# Altium footprint library SMB.PcbLib: 1 footprints
Each footprint in its own frame and in the unit in brackets; x right, y up, seen from the top. Pads: shape width x height; smd on the part's side, far side on the other; paste and mask are expansions set on the pad; w line width, h text height; cw(c..) or ccw(c..) is an arc to the next point about the centre after c.
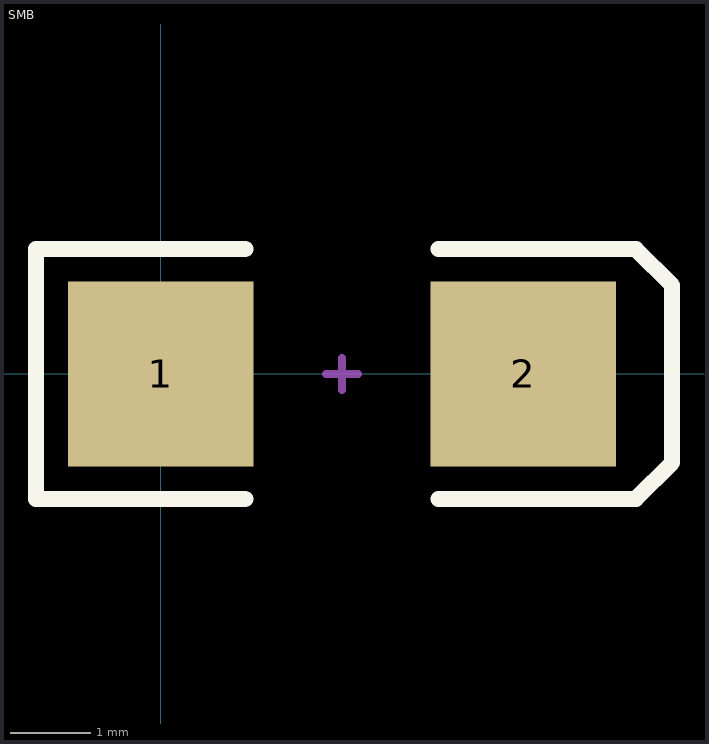
[diagram p0: the footprint, top view; thin cyan lines are the x and y axes]

## SMB [mm]
pads (2):
  rect 2.3x2.3 smd: 1(0,0) 2(4.5,0)
Top Overlay:
  lines w0.2: 1.05,-1.55 -1.55,-1.55 -1.55,1.55 1.05,1.55 ; 3.45,-1.55 5.9,-1.55 6.35,-1.1 6.35,1.1 5.9,1.55 3.45,1.55
Mechanical 1:
  lines w0.1: 2.05,0 2.45,0 ; 2.25,-0.2 2.25,0.2
3D body "SMB.STEP": height 2.65, standoff 0, extent -0.42,-1.813 4.92,1.813